# EAGLE library part AD5767 (library Public)
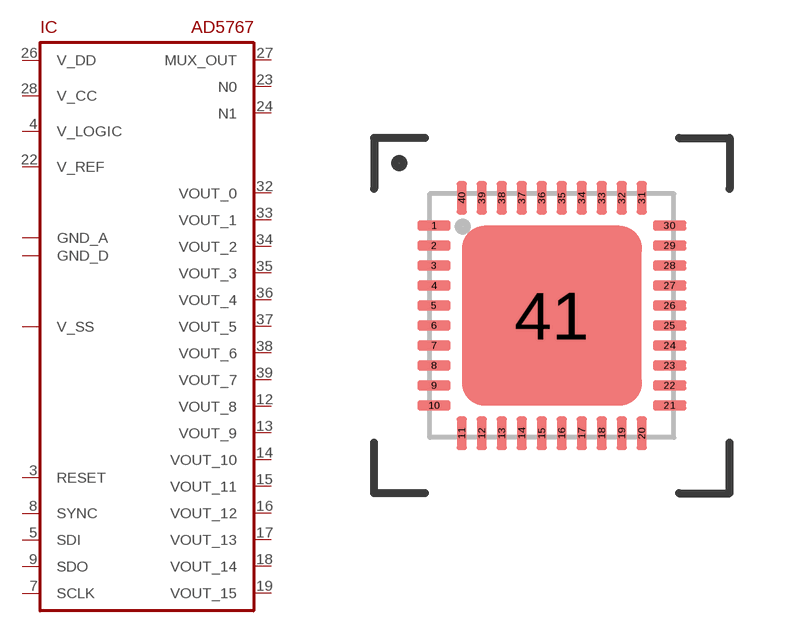
[diagram p118: symbol with the pads of QFN40-0.5; footprint QFN40-0.5]

Designator prefix IC

## AD5767  [QFN40-0.5]
2  GND_D
3  RESET
4  V_LOGIC
5  SDI
6  V_SS
7  SCLK
8  SYNC
9  SDO
10  GND_A
12  VOUT_8
13  VOUT_9
14  VOUT_10
15  VOUT_11
16  VOUT_12
17  VOUT_13
18  VOUT_14
19  VOUT_15
20  GND_D
22  V_REF
23  N0
24  N1
25  GND_D
26  V_DD
27  MUX_OUT
28  V_CC
29  GND_A
31  GND_D
32  VOUT_0
33  VOUT_1
34  VOUT_2
35  VOUT_3
36  VOUT_4
37  VOUT_5
38  VOUT_6
39  VOUT_7
41  V_SS

## Footprint QFN40-0.5 (pad centres in mm)
smd 0.84 x 0.26: 1 -2.945,2.25; 2 -2.945,1.75; 3 -2.945,1.25; 4 -2.945,0.75; 5 -2.945,0.25; 6 -2.945,-0.25; 7 -2.945,-0.75; 8 -2.945,-1.25; 9 -2.945,-1.75; 10 -2.945,-2.25; 21 2.945,-2.25; 22 2.945,-1.75; 23 2.945,-1.25; 24 2.945,-0.75; 25 2.945,-0.25; 26 2.945,0.25; 27 2.945,0.75; 28 2.945,1.25; 29 2.945,1.75; 30 2.945,2.25
smd 0.26 x 0.84: 11 -2.25,-2.945; 12 -1.75,-2.945; 13 -1.25,-2.945; 14 -0.75,-2.945; 15 -0.25,-2.945; 16 0.25,-2.945; 17 0.75,-2.945; 18 1.25,-2.945; 19 1.75,-2.945; 20 2.25,-2.945; 31 2.25,2.945; 32 1.75,2.945; 33 1.25,2.945; 34 0.75,2.945; 35 0.25,2.945; 36 -0.25,2.945; 37 -0.75,2.945; 38 -1.25,2.945; 39 -1.75,2.945; 40 -2.25,2.945
smd 4.5 x 4.5: 41 0,0